# Altium schematic symbol library Voltage Regulators - Linear,Low Drop Out.SchLib: 1 symbol
Pins are listed as number, name and electrical type; pins without a type are passive.

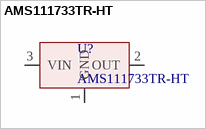
[diagram p0: symbol AMS111733TR-HT]

## AMS111733TR-HT
designator U?
IC-1117 REG LDO 3.3V 1A SOT223; Manufacturer: UMW(Youtai Semiconductor Co., Ltd.); Manufacturer Part Number: AMS1117-3.3; Designed: Ferdi; Supplier 1: Digi-Key; RoHS: No; Category: Uncategorized; Pricing 1: 1=0,48, 10=0,388, 25=0,3552, 100=0,2644, 250=0,2396, 500=0,19828 (USD); Supplier Part Number 1: 4518-AMS1117-3.3DKR-ND
footprint SOT223 (SOT223 / 3)
pins: 1 GND, 2 OUT, 3 VIN